# EAGLE library part MCP73871-2CCI/ML (library ConnectBox_2019)
IC, BATTERY CHARGER, 1A
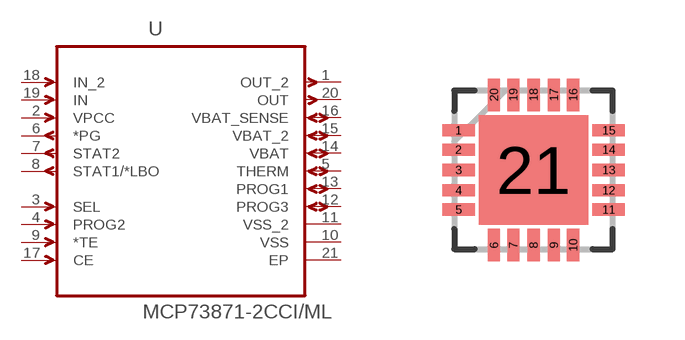
[diagram p0: symbol with the pads of QFN50P400X400X100-21N; footprint QFN50P400X400X100-21N]

Designator prefix U

## MCP73871-2CCI/ML (DESCRIPTION: Fully Integrated Single Cell Lithium Ion/Lithium Polymer Charge Management Contr; DIGI-KEY_PART_NUMBER: MCP73871-2CCI/ML-ND; DIGI-KEY_PURCHASE_URL: https://www.digikey.com/product-detail/en/microchip-technology/MCP73871-2CCI-ML/MCP73871-2CCI-ML-ND/1680971?utm_source=snapeda&utm_medium=aggregator&utm_campaign=symbol; MF: Microchip; MP: MCP73871-2CCI/ML; PACKAGE: QFN-20 Microchip)  [QFN50P400X400X100-21N]
1  OUT_2  out
2  VPCC  in
3  SEL  in
4  PROG2  in
5  THERM
6  *PG  out
7  STAT2  out
8  STAT1/*LBO  out
9  *TE  in
10  VSS  pwr
11  VSS_2  pwr
12  PROG3
13  PROG1
14  VBAT
15  VBAT_2
16  VBAT_SENSE
17  CE  in
18  IN_2  in
19  IN  in
20  OUT  out
21  EP  pas

## Footprint QFN50P400X400X100-21N (pad centres in mm)
smd 0.813 x 0.305: 1 -1.88,0.991; 2 -1.88,0.508; 3 -1.88,0; 4 -1.88,-0.508; 5 -1.88,-0.991; 11 1.88,-0.991; 12 1.88,-0.508; 13 1.88,0; 14 1.88,0.508; 15 1.88,0.991
smd 0.305 x 0.813: 6 -0.991,-1.88; 7 -0.508,-1.88; 8 0,-1.88; 9 0.508,-1.88; 10 0.991,-1.88; 16 0.991,1.88; 17 0.508,1.88; 18 0,1.88; 19 -0.508,1.88; 20 -0.991,1.88
smd 2.743 x 2.743: 21 0,0